# Altium footprint library PcbLib.PcbLib: 18 footprints (part 1 of 2)
Each footprint in its own frame and in the unit in brackets; x right, y up, seen from the top. Pads: shape width x height; smd on the part's side, far side on the other; paste and mask are expansions set on the pad; w line width, h text height; cw(c..) or ccw(c..) is an arc to the next point about the centre after c.
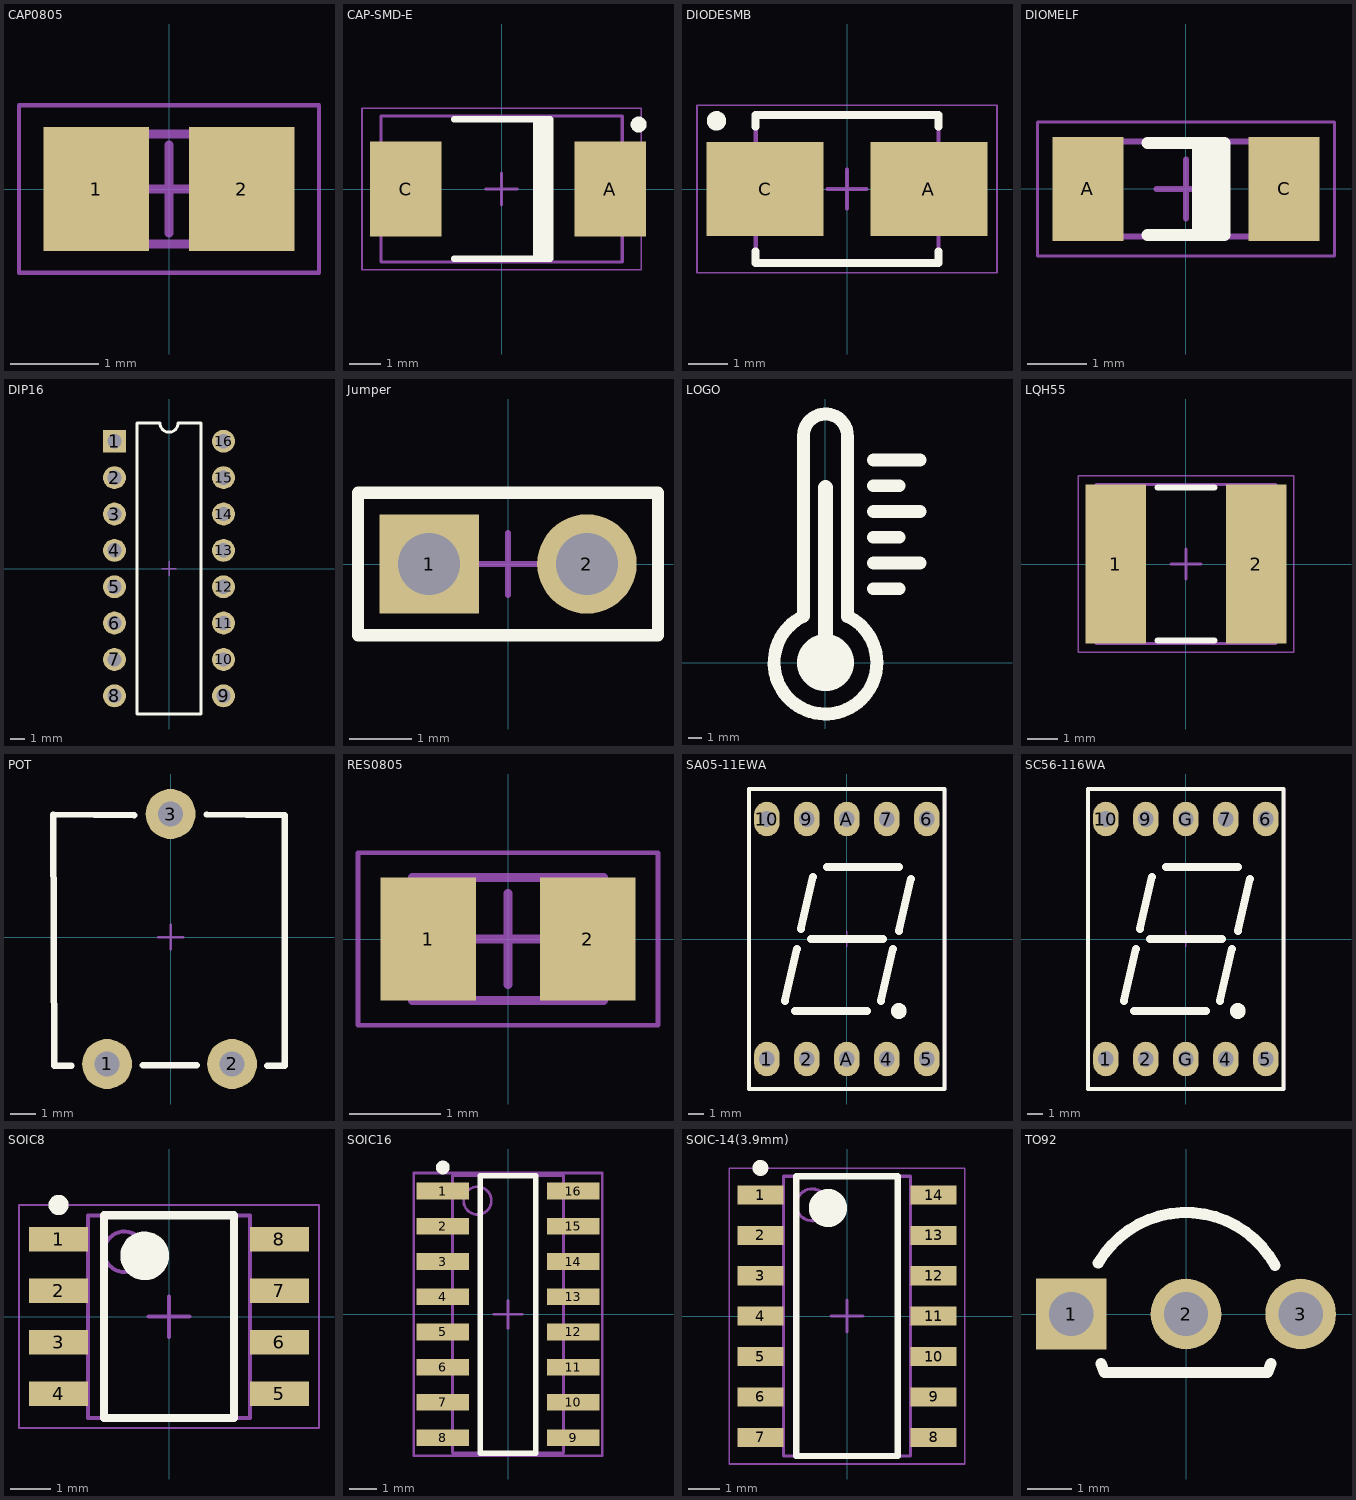
[diagram p0: the footprints below, top view; thin cyan lines are the x and y axes]

## CAP0805 [mm]
height 1.25
pads (2):
  rect 1.2x1.4 smd: 1(-0.825,0) 2(0.825,0)
Mechanical 13:
  lines w0.1: -1,-0.625 -1,0.625 1,0.625 1,-0.625 -1,-0.625
Mechanical 15:
  lines w0.05: -1.7,-0.95 -1.7,0.95 1.7,0.95 1.7,-0.95 -1.7,-0.95
  lines w0.1: -0.5,0 0.5,0 ; 0,-0.5 0,0.5
3D body "SMDCap.step": height 0.78, standoff 0, extent -1,-0.625 1,0.625

## CAP-SMD-E [mm]
height 4.3
pads (2):
  rect 2.25x3 smd: A(3.429,0) C(-3.025,0)
Top Overlay:
  circle w0.25: c4.318,2.032 r0.125
  rectangle: 0.988,-2.2 1.538,2.196
  lines w0.2: -1.5,-2.2 1.5,-2.2 ; -1.5,2.2 1.5,2.2 ; 1.538,-2.2 1.538,2.196
Mechanical 13:
  lines w0.1: -3.8,-2.3 3.8,-2.3 3.8,2.3 -3.8,2.3 -3.8,-2.3
Mechanical 15:
  lines w0.05: -4.4,-2.55 -4.4,2.55 4.4,2.55 4.4,-2.55 -4.4,-2.55
  lines w0.1: -0.5,0 0.5,0 ; 0,-0.5 0,0.5
3D body "User Library-AVX_E_CASE.step": height 4.2, standoff 0, extent -3.701,-2.225 3.7,2.225

## DIODESMB [mm] "Molded Diode, 2-Leads, Body 4,40x3,55mm, IPC Medium Density"
height 2.4
pads (2):
  rect 3x2.4 smd: A(2.1,0) C(-2.1,0)
Top Overlay:
  circle w0.25: c-3.35,1.75 r0.125
  lines w0.2: -2.35,-1.6 -2.35,-1.9 2.35,-1.9 2.35,-1.6 ; -2.35,1.6 -2.35,1.9 2.35,1.9 2.35,1.6
Mechanical 13:
  rectangle: -2.35,-1.9 -2.286,1.9
  lines w0.1: -2.35,-1.9 2.35,-1.9 2.35,1.9 -2.35,1.9 -2.35,-1.9
Mechanical 15:
  lines w0.05: -3.85,-2.15 3.85,-2.15 3.85,2.15 -3.85,2.15 -3.85,-2.15
  lines w0.1: -0.5,0 0.5,0 ; 0,-0.5 0,0.5
3D body "User Library-DO-214AA SMB.step": height 2.3, standoff 0, extent -2.7,-1.8 2.7,1.8

## DIOMELF [mm]
height 1.6
pads (2):
  rect 1.2x1.75 smd: A(-1.65,0) C(1.65,0)
Top Overlay:
  rectangle: 0.1,-0.775 0.65,0.775
  lines w0.2: -0.65,-0.775 0.65,-0.775 0.65,0.775 -0.65,0.775
Mechanical 13:
  lines w0.1: -1.85,-0.8 1.85,-0.8 1.85,0.8 -1.85,0.8 -1.85,-0.8
Mechanical 15:
  lines w0.05: -2.5,-1.125 2.5,-1.125 2.5,1.125 -2.5,1.125 -2.5,-1.125
  lines w0.1: -0.5,0 0.5,0 ; 0,-0.5 0,0.5
3D body "User Library-MiniMelf-2.step": height -0.4, standoff -2, extent -1.85,-0.8 1.85,0.8

## DIP16 [mm]
pads (16):
  rect 1.6x1.6 hole 1: 1(-3.81,8.89)
  round 1.6 hole 1: 2(-3.81,6.35) 3(-3.81,3.81) 4(-3.81,1.27) 5(-3.81,-1.27) 6(-3.81,-3.81) 7(-3.81,-6.35) 8(-3.81,-8.89) 9(3.81,-8.89) 10(3.81,-6.35) 11(3.81,-3.81) 12(3.81,-1.27) 13(3.81,1.27) 14(3.81,3.81) 15(3.81,6.35) 16(3.81,8.89)
Top Overlay:
  lines w0.2: -2.225,-10.16 2.225,-10.16 2.225,10.16 0.635,10.16 cw(c0,10.16) -0.635,10.16 -2.225,10.16 -2.225,-10.16
Mechanical 15:
  lines w0.1: -0.5,0 0.5,0 ; 0,-0.5 0,0.5
3D body "User Library-DIP16.STEP": height 4.57, standoff -3.81, extent -3.91,-9.715 3.91,9.715

## Jumper [mm]
pads (2):
  rect 1.6x1.6 hole 1: 1(-1.27,0)
  round 1.6 hole 1: 2(1.27,0)
Top Overlay:
  lines w0.2: -2.413,-1.143 2.413,-1.143 2.413,1.143 -2.413,1.143 -2.413,-1.143
Mechanical 15:
  lines w0.1: -0.5,0 0.5,0 ; 0,-0.5 0,0.5
3D body "User Library-Jumper SL2.STEP": height 9.5, standoff -2.6, extent -2.5,-1.27 2.5,1.27

## LOGO [mm]
Top Overlay:
  circle w3.9: c0,0 r0.15
  lines w0.952: -1.627,16.821 cw(c0,16.764) 1.628,16.764 ; -1.612,3.441 ccw(c0,0) 1.819,3.336
  lines w0.953: -1.628,3.62 -1.628,16.821 ; 1.628,3.39 1.628,16.764 ; 3.556,5.461 5.461,5.461 ; 3.556,7.366 6.985,7.366 ; 3.556,9.271 5.461,9.271 ; 3.556,11.176 6.985,11.176 ; 3.556,13.081 5.461,13.081 ; 3.556,14.986 6.985,14.986
  lines w1.142: 0,0 0,12.954

## LQH55 [mm]
height 5
pads (2):
  rect 2.01x5.32 smd: 1(-2.345,0) 2(2.345,0)
Top Overlay:
  lines w0.2: -0.95,-2.56 0.95,-2.56 ; -0.95,2.56 0.95,2.56
Mechanical 13:
  lines w0.1: -3,-2.65 3,-2.65 3,2.65 -3,2.65 -3,-2.65
Mechanical 15:
  lines w0.05: -3.6,-2.95 3.6,-2.95 3.6,2.95 -3.6,2.95 -3.6,-2.95
  lines w0.1: -0.5,0 0.5,0 ; 0,-0.5 0,0.5
3D body "User Library-LQH55D series.step": height 4.7, standoff 0, extent -2.85,-2.5 2.85,2.5

## POT [mm]
pads (3):
  round 2 hole 1: 1(-2.54,-5.08) 2(2.46,-5.08) 3(0,4.92)
Top Overlay:
  lines w0.254: -3.962,-5.156 -4.216,-5.156 -4.648,-5.156 -4.699,4.902 -1.448,4.877 ; -1.118,-5.131 1.041,-5.131 ; 1.448,4.902 4.572,4.877 4.572,-5.156 3.861,-5.156
Mechanical 15:
  lines w0.1: -0.5,0 0.5,0 ; 0,-0.5 0,0.5
3D body "User Library-VK10_body.step": height 7.1, standoff -3.8, extent -4.633,-5.154 4.633,4.9

## RES0805 [mm] "Chip Resistor, 2-Leads, Body 2,00x1,25mm, IPC Medium Density"
height 0.5
pads (2):
  rect 1.05x1.35 smd: 1(-0.875,0) 2(0.875,0)
Mechanical 13:
  lines w0.1: -1.05,-0.675 -1.05,0.675 1.05,0.675 1.05,-0.675 -1.05,-0.675
Mechanical 15:
  lines w0.05: -1.65,-0.95 -1.65,0.95 1.65,0.95 1.65,-0.95 -1.65,-0.95
  lines w0.1: -0.5,0 0.5,0 ; 0,-0.5 0,0.5
3D body "SMDResistor.STEP": height 0.78, standoff 0, extent -1,-0.625 1,0.625

## SA05-11EWA [mm]
pads (10):
  oval 1.6x2.2 hole 1: 1(-5.08,-7.62) 2(-2.54,-7.62) 4(2.54,-7.62) 5(5.08,-7.62) 6(5.08,7.62) 7(2.54,7.62) 9(-2.54,7.62) 10(-5.08,7.62) A(0,-7.62) A(0,7.62)
Top Overlay:
  circle w0.8: c3.302,-4.572 r0.1
  lines w0.254: -6.198,-9.525 -6.198,9.525 6.198,9.525 6.198,-9.525 -6.198,-9.525
  lines w0.508: -3.937,-3.937 -3.175,-0.635 ; -3.302,-4.572 1.27,-4.572 ; -2.921,0.635 -2.159,3.937 ; -2.286,0 2.286,0 ; -1.27,4.572 3.302,4.572 ; 2.159,-3.937 2.921,-0.635 ; 3.302,0.508 4.064,3.81
Mechanical 15:
  lines w0.05: -6.299,-9.525 6.325,-9.525 6.325,9.525 -6.299,9.525 -6.299,-9.525
  lines w0.1: -0.5,0 0.5,0 ; 0,-0.5 0,0.5
3D body "end-el-san Co Ltd-King Bright SA-SC56-11.step": height 8.2, standoff -3.8, extent -6.35,-9.525 6.35,9.525

## SC56-116WA [mm]
pads (10):
  oval 1.6x2.2 hole 1: 1(-5.08,-7.62) 2(-2.54,-7.62) 4(2.54,-7.62) 5(5.08,-7.62) 6(5.08,7.62) 7(2.54,7.62) 9(-2.54,7.62) 10(-5.08,7.62) G(0,-7.62) G(0,7.62)
Top Overlay:
  circle w0.8: c3.302,-4.572 r0.1
  lines w0.254: -6.198,-9.525 6.198,-9.525 6.198,9.525 -6.198,9.525 -6.198,-9.525
  lines w0.508: -3.937,-3.937 -3.175,-0.635 ; -3.302,-4.572 1.27,-4.572 ; -2.921,0.635 -2.159,3.937 ; -2.286,0 2.286,0 ; -1.27,4.572 3.302,4.572 ; 2.159,-3.937 2.921,-0.635 ; 3.302,0.508 4.064,3.81
Mechanical 15:
  lines w0.05: -6.299,-9.525 -6.299,9.525 6.325,9.525 6.325,-9.525 -6.299,-9.525
  lines w0.1: -0.5,0 0.5,0 ; 0,-0.5 0,0.5
3D body "end-el-san Co Ltd-King Bright SA-SC56-11.step": height 8.2, standoff -3.8, extent -6.35,-9.525 6.35,9.525

## SOIC8 [mm]
height 1.75
pads (8):
  rect 1.45x0.6 smd: 1(-2.725,1.905) 2(-2.725,0.635) 3(-2.725,-0.635) 4(-2.725,-1.905) 5(2.725,-1.905) 6(2.725,-0.635) 7(2.725,0.635) 8(2.725,1.905)
Top Overlay:
  circle w0.25: c-2.725,2.755 r0.125
  circle w0.6: c-0.6,1.5 r0.3
  lines w0.2: -1.6,-2.5 -1.6,2.5 1.6,2.5 1.6,-2.5 -1.6,-2.5
Mechanical 13:
  circle w0.1: c-1.1,1.6 r0.5
  lines w0.1: -2,-2.5 -2,2.5 2,2.5 2,-2.5 -2,-2.5
Mechanical 15:
  lines w0.05: -3.7,-2.75 -3.7,2.75 3.7,2.75 3.7,-2.75 -3.7,-2.75
  lines w0.1: -0.5,0 0.5,0 ; 0,-0.5 0,0.5
3D body "ne555d.stp": height 1.66, standoff 0, extent -2.997,-2.451 2.997,2.451

## SOIC16 [mm]
pads (16):
  rect 1.9x0.6 smd: 1(-2.35,4.445) 2(-2.35,3.175) 3(-2.35,1.905) 4(-2.35,0.635) 5(-2.35,-0.635) 6(-2.35,-1.905) 7(-2.35,-3.175) 8(-2.35,-4.445) 9(2.35,-4.445) 10(2.35,-3.175) 11(2.35,-1.905) 12(2.35,-0.635) 13(2.35,0.635) 14(2.35,1.905) 15(2.35,3.175) 16(2.35,4.445)
Top Overlay:
  circle w0.25: c-2.35,5.295 r0.125
  lines w0.2: -1,-5 1,-5 1,5 -1,5 -1,-5
Mechanical 13:
  circle w0.1: c-1.1,4.1 r0.5
  lines w0.1: -2,-5 2,-5 2,5 -2,5 -2,-5
Mechanical 15:
  lines w0.1: -0.5,0 0.5,0 ; 0,-0.5 0,0.5 ; -3.4,-5.1 3.4,-5.1 3.4,5.1 -3.4,5.1 -3.4,-5.1
3D body "User Library-SO-16N.STEP": height 1.62, standoff 0, extent -3,-4.965 3,4.965

## SOIC-14(3.9mm) [mm]
height 1.75
pads (14):
  rect 1.45x0.6 smd: 1(-2.725,3.81) 2(-2.725,2.54) 3(-2.725,1.27) 4(-2.725,0) 5(-2.725,-1.27) 6(-2.725,-2.54) 7(-2.725,-3.81) 8(2.725,-3.81) 9(2.725,-2.54) 10(2.725,-1.27) 11(2.725,0) 12(2.725,1.27) 13(2.725,2.54) 14(2.725,3.81)
Top Overlay:
  circle w0.25: c-2.725,4.66 r0.125
  circle w0.6: c-0.6,3.4 r0.3
  lines w0.2: -1.6,-4.4 -1.6,4.4 1.6,4.4 1.6,-4.4 -1.6,-4.4
Mechanical 13:
  circle w0.1: c-1.1,3.5 r0.5
  lines w0.1: -2,-4.4 -2,4.4 2,4.4 2,-4.4 -2,-4.4
Mechanical 15:
  lines w0.05: -3.7,-4.65 -3.7,4.65 3.7,4.65 3.7,-4.65 -3.7,-4.65
  lines w0.1: -0.5,0 0.5,0 ; 0,-0.5 0,0.5
3D body "User Library-SOIC-14.step": height 1.75, standoff 0, extent -3,-4.375 3,4.375

## TO92 [mm]
pads (3):
  rect 1.6x1.6 hole 1: 1(-2.6,0)
  round 1.6 hole 1: 2(0,0) 3(2.6,0)
Top Overlay:
  lines w0.254: -1.988,1.156 cw(c0,0) 2.02,1.1 ; -1.925,-1.128 -1.85,-1.327 ; 1.926,-1.126 1.85,-1.327 ; -1.85,-1.327 1.85,-1.327 ; -1.85,-1.327 1.85,-1.327
3D body "User Library-TO-92-2_54-line.STEP": height 9.9, standoff -2.5, extent -2.798,-1.825 2.798,2.105